# Altium footprint library connectors.PcbLib: 53 footprints (part 2 of 4)
Each footprint in its own frame and in the unit in brackets; x right, y up, seen from the top. Pads: shape width x height; smd on the part's side, far side on the other; paste and mask are expansions set on the pad; w line width, h text height; cw(c..) or ccw(c..) is an arc to the next point about the centre after c.
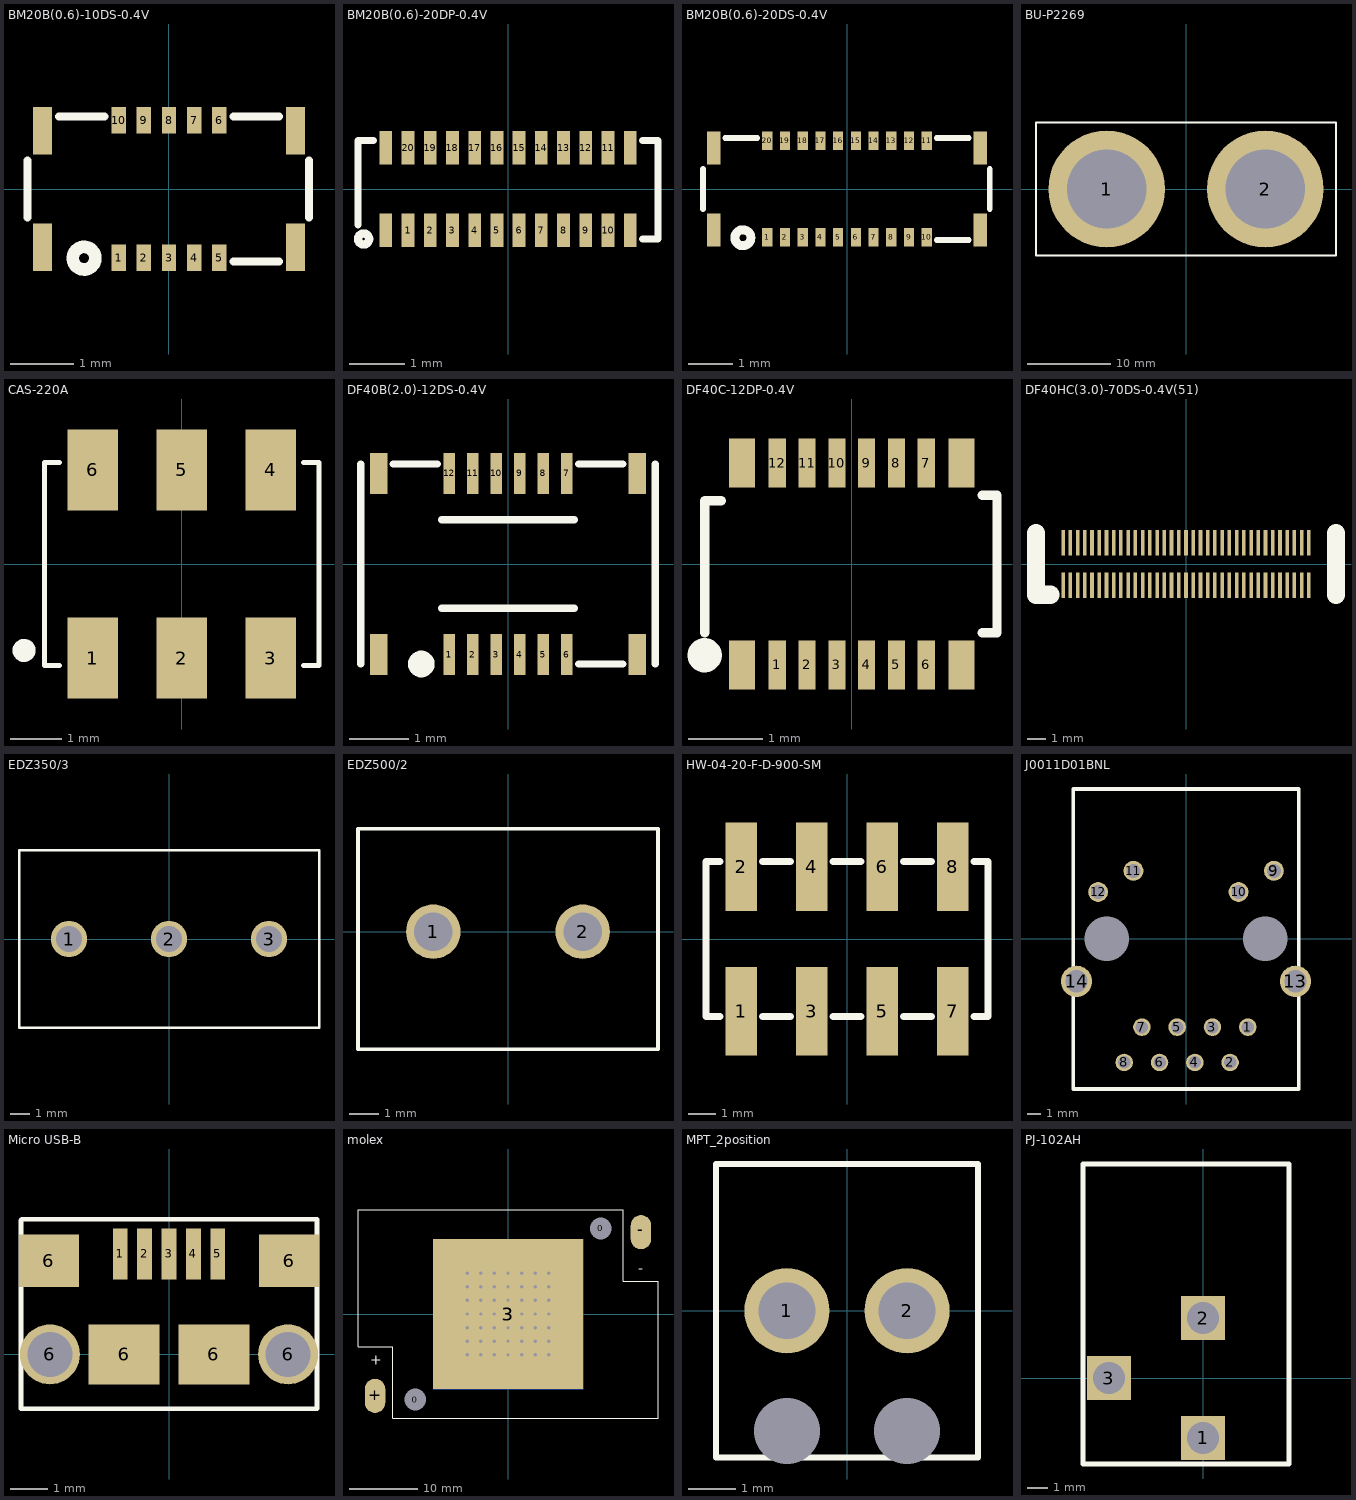
[diagram p1: the footprints below, top view; thin cyan lines are the x and y axes]

## BM20B(0.6)-10DS-0.4V [mm] "Hirose BM20 Series, 0.4mm pitch, 0.6mm stack height, receptable"
pads (14):
  rect 0.23x0.42 smd: 1(-0.8,-1.09) 2(-0.4,-1.09) 3(0,-1.09) 4(0.4,-1.09) 5(0.8,-1.09) 6(0.8,1.09) 7(0.4,1.09) 8(0,1.09) 9(-0.4,1.09) 10(-0.8,1.09)
  rect 0.3x0.75 smd: ""(-2.01,-0.925) ""(-2.01,0.925) ""(2.01,-0.925) ""(2.01,0.925)
Top Overlay:
  circle w0.2: c-1.35,-1.1 r0.18
  lines w0.127: -2.25,-0.45 -2.25,0.45 ; -1.75,1.15 -1.025,1.15 ; 1.025,-1.15 1.75,-1.15 ; 1.025,1.15 1.75,1.15 ; 2.225,-0.45 2.225,0.45
3D body "BM20B(0.6)-10DS-0.4V.stp": height 0.6, standoff 0, extent -2.24,-1.15 2.24,1.15

## BM20B(0.6)-20DP-0.4V [mm] "Hirose BM20 Series, 0.4mm pitch, 0.6mm stack height, male"
pads (24):
  rect 0.23x0.6 smd: 1(-1.8,-0.74) 2(-1.4,-0.74) 3(-1,-0.74) 4(-0.6,-0.74) 5(-0.2,-0.74) 6(0.2,-0.74) 7(0.6,-0.74) 8(1,-0.74) 9(1.4,-0.74) 10(1.8,-0.74) 11(1.8,0.74) 12(1.4,0.74) 13(1,0.74) 14(0.6,0.74) 15(0.2,0.74) 16(-0.2,0.74) 17(-0.6,0.74) 18(-1,0.74) 19(-1.4,0.74) 20(-1.8,0.74) ""(-2.2,-0.74) ""(-2.2,0.74) ""(2.2,-0.74) ""(2.2,0.74)
Top Overlay:
  circle w0.15: c-2.6,-0.9 r0.1
  lines w0.127: -2.7,-0.65 -2.7,0.875 -2.425,0.875 ; 2.425,-0.9 2.7,-0.9 2.7,0.875 2.425,0.875
3D body "BM20B(0.6)-20DP-0.4V.stp": height 0.52, standoff 0, extent -2.7,-0.89 2.7,0.89

## BM20B(0.6)-20DS-0.4V [mm] "Hirose BM20 Series, 0.4mm pitch, 0.6mm stack height, receptable"
pads (24):
  rect 0.23x0.42 smd: 1(-1.8,-1.09) 2(-1.4,-1.09) 3(-1,-1.09) 4(-0.6,-1.09) 5(-0.2,-1.09) 6(0.2,-1.09) 7(0.6,-1.09) 8(1,-1.09) 9(1.4,-1.09) 10(1.8,-1.09) 11(1.8,1.09) 12(1.4,1.09) 13(1,1.09) 14(0.6,1.09) 15(0.2,1.09) 16(-0.2,1.09) 17(-0.6,1.09) 18(-1,1.09) 19(-1.4,1.09) 20(-1.8,1.09)
  rect 0.3x0.75 smd: ""(-3.01,-0.925) ""(-3.01,0.925) ""(3.01,-0.925) ""(3.01,0.925)
Top Overlay:
  circle w0.2: c-2.35,-1.1 r0.18
  lines w0.127: -3.25,-0.45 -3.25,0.45 ; -2.75,1.15 -2.025,1.15 ; 2.025,-1.15 2.75,-1.15 ; 2.025,1.15 2.75,1.15 ; 3.225,-0.45 3.225,0.45
3D body "BM20B(0.6)-20DS-0.4V.stp": height 0.6, standoff 0, extent -3.24,-1.15 3.24,1.15

## BU-P2269 [mm] "Standard Banana connector"
pads (2):
  round 14 hole 9.52 mask-0.127: 1(-9.525,0) 2(9.525,0)
Top Overlay:
  lines w0.254: -18,-8 18,-8 18,8 -18,8 -18,-8

## CAS-220A [mm] "CAS-220A"
pads (6):
  rect 1x1.6 smd: 1(-1.75,-1.85) 2(0,-1.85) 3(1.75,-1.85) 4(1.75,1.85) 5(0,1.85) 6(-1.75,1.85)
Top Overlay:
  circle w0.254: c-3.1,-1.7 r0.1
  lines w0.1: -2.4,-2 -2.7,-2 -2.7,2 -2.4,2 ; 2.4,-2 2.7,-2 2.7,2 2.4,2
3D body: height 2.5, standoff 0, extent -2.7,-2 2.7,2

## DF40B(2.0)-12DS-0.4V [mm] "Hirose DF40 Series, 0.4 mm pitch, 2.0 mm stack height, 12 positions"
pads (16):
  rect 0.2x0.7 smd: 1(-1,-1.54) 2(-0.6,-1.54) 3(-0.2,-1.54) 4(0.2,-1.54) 5(0.6,-1.54) 6(1,-1.54) 7(1,1.54) 8(0.6,1.54) 9(0.2,1.54) 10(-0.2,1.54) 11(-0.6,1.54) 12(-1,1.54)
  rect 0.3x0.7 smd: ""(-2.2,-1.54) ""(-2.2,1.54) ""(2.2,-1.54) ""(2.2,1.54)
Top Overlay:
  circle w0.254: c-1.475,-1.7 r0.1
  lines w0.127: -2.5,-1.7 -2.5,1.7 ; -1.95,1.7 -1.2,1.7 ; -1.125,-0.75 1.125,-0.75 ; -1.125,0.75 1.125,0.75 ; 1.2,-1.7 1.95,-1.7 ; 1.2,1.7 1.95,1.7 ; 2.5,-1.7 2.5,1.7
3D body "DF40B(2.0)-12DS-0.4V.stp": height 1.9, standoff -0.05, extent -2.5,-1.685 2.5,1.695

## DF40C-12DP-0.4V [mm] "Hirose DF40 Series, 0.4mm pitch, 12 positions"
pads (16):
  rect 0.23x0.66 smd: 1(-1,-1.355) 2(-0.6,-1.355) 3(-0.2,-1.355) 4(0.2,-1.355) 5(0.6,-1.355) 6(1,-1.355) 7(1,1.355) 8(0.6,1.355) 9(0.2,1.355) 10(-0.2,1.355) 11(-0.6,1.355) 12(-1,1.355)
  rect 0.35x0.66 smd: ""(-1.475,-1.355) ""(-1.475,1.355) ""(1.475,-1.355) ""(1.475,1.355)
Top Overlay:
  circle w0.254: c-1.975,-1.225 r0.103
  lines w0.127: -1.975,-0.925 -1.975,0.85 -1.75,0.85 ; 1.75,-0.925 1.95,-0.925 1.95,0.925 1.75,0.925
3D body "DF40C-12DP.stp": height 1.09, standoff -0.05, extent -1.975,-1.49 1.945,1.48

## DF40HC(3.0)-70DS-0.4V(51) [mm] "DF40 Series 0.4 mm Pitch, 3.0 Height, Board-to-Board connectors"
pads (70):
  rect 0.2x1.43 smd: 1(-6.8,-1.175) 2(-6.8,1.175) 3(-6.4,-1.175) 4(-6.4,1.175) 5(-6,-1.175) 6(-6,1.175) 7(-5.6,-1.175) 8(-5.6,1.175) 9(-5.2,-1.175) 10(-5.2,1.175) 11(-4.8,-1.175) 12(-4.8,1.175) 13(-4.4,-1.175) 14(-4.4,1.175) 15(-4,-1.175) 16(-4,1.175) 17(-3.6,-1.175) 18(-3.6,1.175) 19(-3.2,-1.175) 20(-3.2,1.175) 21(-2.8,-1.175) 22(-2.8,1.175) 23(-2.4,-1.175) 24(-2.4,1.175) 25(-2,-1.175) 26(-2,1.175) 27(-1.6,-1.175) 28(-1.6,1.175) 29(-1.2,-1.175) 30(-1.2,1.175) 31(-0.8,-1.175) 32(-0.8,1.175) 33(-0.4,-1.175) 34(-0.4,1.175) 35(0,-1.175) 36(0,1.175) 37(0.4,-1.175) 38(0.4,1.175) 39(0.8,-1.175) 40(0.8,1.175) 41(1.2,-1.175) 42(1.2,1.175) 43(1.6,-1.175) 44(1.6,1.175) 45(2,-1.175) 46(2,1.175) 47(2.4,-1.175) 48(2.4,1.175) 49(2.8,-1.175) 50(2.8,1.175) 51(3.2,-1.175) 52(3.2,1.175) 53(3.6,-1.175) 54(3.6,1.175) 55(4,-1.175) 56(4,1.175) 57(4.4,-1.175) 58(4.4,1.175) 59(4.8,-1.175) 60(4.8,1.175) 61(5.2,-1.175) 62(5.2,1.175) 63(5.6,-1.175) 64(5.6,1.175) 65(6,-1.175) 66(6,1.175) 67(6.4,-1.175) 68(6.4,1.175) 69(6.8,-1.175) 70(6.8,1.175)
Top Overlay:
  lines w1: -8.3,1.7 -8.3,-1.7 -7.5,-1.7 ; 8.3,-1.7 8.3,1.7
3D body "DF40HC(3.0)-70DS.stp": height 2.9, standoff 0, extent -8.3,-1.68 8.3,1.7

## EDZ350/3 [mm] "On Shore Tech. EDZ350/3 50.8 mm pitch"
pads (3):
  round 1.85 hole 1.3: 1(-5.08,0) 2(0,0) 3(5.08,0)
Top Overlay:
  lines w0.127: -7.62,-4.5 7.62,-4.5 7.62,4.5 -7.62,4.5 -7.62,-4.5
3D body: height 13.5, standoff 0, extent -7.62,-4.445 7.62,4.445

## EDZ500/2 [mm] "On Shore Tech. 200 mil, 2 pos, screw connector, blue"
pads (2):
  round 1.85 hole 1.3: 1(-2.54,0) 2(2.54,0)
Top Overlay:
  lines w0.127: -5.1,-4 -5.1,3.5 5.1,3.5 5.1,-4 -5.1,-4
3D body: height 10, standoff 0, extent -5.1,-4 5.1,3.5

## HW-04-20-F-D-900-SM [mm] "Samtec 100 mil 2x4 header"
pads (8):
  rect 1.14x3.175 smd: 1(-3.81,-2.602) 2(-3.81,2.603) 3(-1.27,-2.602) 4(-1.27,2.603) 5(1.27,-2.602) 6(1.27,2.603) 7(3.81,-2.602) 8(3.81,2.603)
Top Overlay:
  lines w0.254: -4.572,-2.794 -5.08,-2.794 -5.08,2.794 -4.572,2.794 ; -3.048,-2.794 -2.032,-2.794 ; -3.048,2.794 -2.032,2.794 ; -0.508,-2.794 0.508,-2.794 ; -0.508,2.794 0.508,2.794 ; 2.032,-2.794 3.048,-2.794 ; 2.032,2.794 3.048,2.794 ; 4.572,-2.794 5.08,-2.794 5.08,2.794 4.572,2.794
3D body: height 2.54, standoff 0, extent -5.08,-2.794 5.08,2.794
3D body: height 23, standoff 0, extent -4.115,0.965 -3.505,1.575
3D body: height 23, standoff 0, extent -1.575,0.965 -0.965,1.575
3D body: height 23, standoff 0, extent 0.965,0.965 1.575,1.575
3D body: height 23, standoff 0, extent 3.505,0.965 4.115,1.575
3D body: height 23, standoff 0, extent -4.115,-1.575 -3.505,-0.965
3D body: height 23, standoff 0, extent -1.575,-1.575 -0.965,-0.965
3D body: height 23, standoff 0, extent 0.965,-1.575 1.575,-0.965
3D body: height 23, standoff 0, extent 3.505,-1.575 4.115,-0.965

## J0011D01BNL [mm] "Pulse Electronic RJ45 Jack"
pads (16):
  round 1.26 hole 0.9: 1(4.445,-6.35) 2(3.175,-8.89) 3(1.905,-6.35) 4(0.635,-8.89) 5(-0.635,-6.35) 6(-1.905,-8.89) 7(-3.175,-6.35) 8(-4.445,-8.89)
  round 1.43 hole 1.02: 9(6.325,4.9) 10(3.785,3.38) 11(-3.785,4.9) 12(-6.325,3.38)
  round 2.25 hole 1.6: 13(7.875,-3.05) 14(-7.875,-3.05)
  round 0 hole 3.2: ""(-5.715,0) ""(5.715,0)
Top Overlay:
  lines w0.254: -8.13,-10.8 8.13,-10.8 8.13,10.79 -8.13,10.79 -8.13,-10.8
3D body "User Library-RJ45-01-J0011D01BNL.STEP": height 13.57, standoff -3.94, extent -8.321,-10.547 8.279,10.8

## Micro USB-B [mm]
pads (11):
  rect 0.4x1.35 smd mask+0.1: 1(-1.3,2.675) 2(-0.65,2.675) 3(0,2.675) 4(0.65,2.675) 5(1.3,2.675)
  rect 1.6x1.4 smd mask+0.1: 6(-3.2,2.5) 6(3.2,2.5)
  round 1.6 hole 1.2: 6(-3.175,0) 6(3.175,0)
  rect 1.9x1.6 smd mask+0.1: 6(-1.2,0) 6(1.2,0)
Top Overlay:
  lines w0.127: -3.95,-1.45 3.95,-1.45 3.95,3.6 -3.925,3.6 -3.95,3.575 -3.95,-1.45
3D body "User Library-MicroUSB-B_Molex_105017-0001.step": height 2.68, standoff -0.63, extent -4.1,-2.54 4.1,2.89

## molex [mm] "CREE LED holder"
pads (6):
  oval 1.7x2.8 hole 3.175: 0(-13.61,-12.54) 0(13.61,12.54)
  rect 22x22 smd: 3(0,0)
  rect 22x22 smd far side: 3(0,0)
  oval 3x5 smd: +(-19.5,-12) -(19.5,12)
via 0,6 diameter 1.016 hole 0.508
via 2,6 diameter 1.016 hole 0.508
via 4,6 diameter 1.016 hole 0.508
via 6,6 diameter 1.016 hole 0.508
via -2,6 diameter 1.016 hole 0.508
via -4,6 diameter 1.016 hole 0.508
via -6,6 diameter 1.016 hole 0.508
via 0,-6 diameter 1.016 hole 0.508
via 2,-6 diameter 1.016 hole 0.508
via 4,-6 diameter 1.016 hole 0.508
via 6,-6 diameter 1.016 hole 0.508
via -2,-6 diameter 1.016 hole 0.508
via -4,-6 diameter 1.016 hole 0.508
via -6,-6 diameter 1.016 hole 0.508
via 0,-4 diameter 1.016 hole 0.508
via 2,-4 diameter 1.016 hole 0.508
via 4,-4 diameter 1.016 hole 0.508
via 6,-4 diameter 1.016 hole 0.508
via -2,-4 diameter 1.016 hole 0.508
via -4,-4 diameter 1.016 hole 0.508
via -6,-4 diameter 1.016 hole 0.508
via 0,-2 diameter 1.016 hole 0.508
via 2,-2 diameter 1.016 hole 0.508
via 4,-2 diameter 1.016 hole 0.508
via 6,-2 diameter 1.016 hole 0.508
via -2,-2 diameter 1.016 hole 0.508
via -4,-2 diameter 1.016 hole 0.508
via -6,-2 diameter 1.016 hole 0.508
via 0,4 diameter 1.016 hole 0.508
via 2,4 diameter 1.016 hole 0.508
via 4,4 diameter 1.016 hole 0.508
via 6,4 diameter 1.016 hole 0.508
via -2,4 diameter 1.016 hole 0.508
via -4,4 diameter 1.016 hole 0.508
via -6,4 diameter 1.016 hole 0.508
via 0,2 diameter 1.016 hole 0.508
via 2,2 diameter 1.016 hole 0.508
via 4,2 diameter 1.016 hole 0.508
via 6,2 diameter 1.016 hole 0.508
via -2,2 diameter 1.016 hole 0.508
via -4,2 diameter 1.016 hole 0.508
via -6,2 diameter 1.016 hole 0.508
via -6,0 diameter 1.016 hole 0.508
via -4,0 diameter 1.016 hole 0.508
via -2,0 diameter 1.016 hole 0.508
via 6,0 diameter 1.016 hole 0.508
via 4,0 diameter 1.016 hole 0.508
via 2,0 diameter 1.016 hole 0.508
via 0,0 diameter 1.016 hole 0.508
Top Overlay:
  lines w0.1: -22,-4.775 -16.9,-4.775 -16.9,-15.3 22,-15.3 22,4.8 16.875,4.8 16.875,15.3 -22,15.3 -22,-4.775
  text "+" at -20.175,-7.425 h1.52
  text "-" at 19.075,5.975 h1.52
3D body: height 4.5, standoff 0, extent -22,-15.3 -11.925,15.3
3D body "CXA25xx Mechanical Model 20120710.stp": height 1.91, standoff 0, extent -11.925,-11.925 11.925,11.925
3D body: height 4.5, standoff 0, extent 11.925,-15.3 22,15.3
3D body: height 4.5, standoff 0, extent -11.925,11.925 11.925,15.3
3D body: height 4.5, standoff 0, extent -11.925,-15.3 11.925,-11.925

## MPT_2position [mm] "Screw connector 2 pos"
pads (4):
  round 1.8 hole 1.2: 1(-1.27,0) 2(1.27,0)
  round 0 hole 1.4: ""(-1.27,-2.54) ""(1.27,-2.54)
Top Overlay:
  lines w0.127: -2.77,-3.1 2.77,-3.1 2.77,3.1 -2.77,3.1 -2.77,-3.1

## PJ-102AH [mm] "Power Jack"
pads (3):
  rect 2.2x2.2 hole 1.6: 1(0,-3) 2(0,3) 3(-4.7,0)
Top Overlay:
  lines w0.254: -6,-4.3 4.3,-4.3 4.3,10.7 -6,10.7 -6,0 -6,-4.3
3D body: height 10, standoff 0, extent -5.75,9.15 4.075,10.888
3D body: height 8.39, standoff 0.01, extent -4.975,-3.85 3.392,9.15
3D body: height 3, standoff 0, extent -5.75,-3.987 4.075,10.888